# EAGLE library part VL6180V1NR/1 (library parts_library)
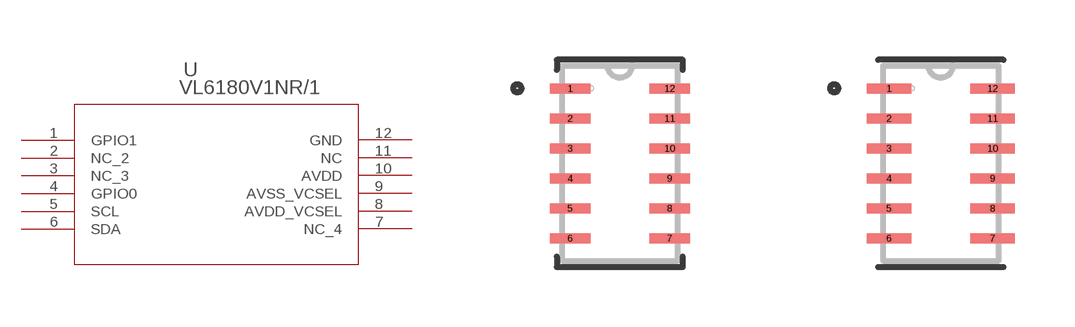
[diagram p0: symbol with the pads of VL6180X_STM; footprints VL6180X_STM, VL6180X_STM-M]

Designator prefix U

## VL6180V1NR/1 (COPYRIGHT: Copyright (C) 2025 Ultra Librarian. All rights reserved.; MANUFACTURER_PART_NUMBER: VL6180V1NR/1; MFR_NAME: STMicroelectronics)  [VL6180X_STM]
1  GPIO1
2  NC_2  nc
3  NC_3  nc
4  GPIO0
5  SCL  in
6  SDA
7  NC_4  nc
8  AVDD_VCSEL  pwr
9  AVSS_VCSEL  pas
10  AVDD  pwr
11  NC  nc
12  GND  pas

## VL6180V1NR/1VL6180X_STM-M (COPYRIGHT: Copyright (C) 2025 Ultra Librarian. All rights reserved.; MANUFACTURER_PART_NUMBER: VL6180V1NR/1; MFR_NAME: STMicroelectronics)  [VL6180X_STM-M]
Pads as for VL6180X_STM

## VL6180V1NR/1VL6180X_STM-L (COPYRIGHT: Copyright (C) 2025 Ultra Librarian. All rights reserved.; MANUFACTURER_PART_NUMBER: VL6180V1NR/1; MFR_NAME: STMicroelectronics)  [VL6180X_STM-L]
Pads as for VL6180X_STM

## Footprint VL6180X_STM (pad centres in mm)
smd 1.016 x 0.254: 1 -1.245,1.875; 2 -1.245,1.125; 3 -1.245,0.375; 4 -1.245,-0.375; 5 -1.245,-1.125; 6 -1.245,-1.875; 7 1.245,-1.875; 8 1.245,-1.125; 9 1.245,-0.375; 10 1.245,0.375; 11 1.245,1.125; 12 1.245,1.875

## Footprint VL6180X_STM-M (pad centres in mm)
smd 1.118 x 0.254: 1 -1.295,1.875; 2 -1.295,1.125; 3 -1.295,0.375; 4 -1.295,-0.375; 5 -1.295,-1.125; 6 -1.295,-1.875; 7 1.295,-1.875; 8 1.295,-1.125; 9 1.295,-0.375; 10 1.295,0.375; 11 1.295,1.125; 12 1.295,1.875

## Footprint VL6180X_STM-L (pad centres in mm)
smd 0.914 x 0.254: 1 -1.194,1.875; 2 -1.194,1.125; 3 -1.194,0.375; 4 -1.194,-0.375; 5 -1.194,-1.125; 6 -1.194,-1.875; 7 1.194,-1.875; 8 1.194,-1.125; 9 1.194,-0.375; 10 1.194,0.375; 11 1.194,1.125; 12 1.194,1.875